# Altium schematic symbol library SnapEDAsch.SchLib: 1 symbol
Pins are listed as number, name and electrical type; pins without a type are passive.

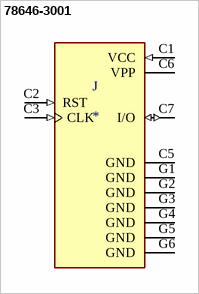
[diagram p0: symbol 78646-3001]

## 78646-3001
designator J
6 Position Card Connector Micro SIM Surface Mount, Right Angle Gold; MP: 78646-3001; MF: Molex; Price: None; Availability: Unavailable; Package: None; Value: *; SnapEDA_Link: https://www.snapeda.com/parts/78646-3001/Molex/view-part/75189/?ref=snap
footprint MOLEX_78646-3001
pins: C1 VCC (in), C2 RST (in), C3 CLK (in), C5 GND (power), C6 VPP (power), C7 I/O (io), G1 GND (power), G2 GND (power), G3 GND (power), G4 GND (power), G5 GND (power), G6 GND (power)